# Altium footprint library SamacSys.PcbLib: 19 footprints (part 2 of 2)
Each footprint in its own frame and in the unit in brackets; x right, y up, seen from the top. Pads: shape width x height; smd on the part's side, far side on the other; paste and mask are expansions set on the pad; w line width, h text height; cw(c..) or ccw(c..) is an arc to the next point about the centre after c.
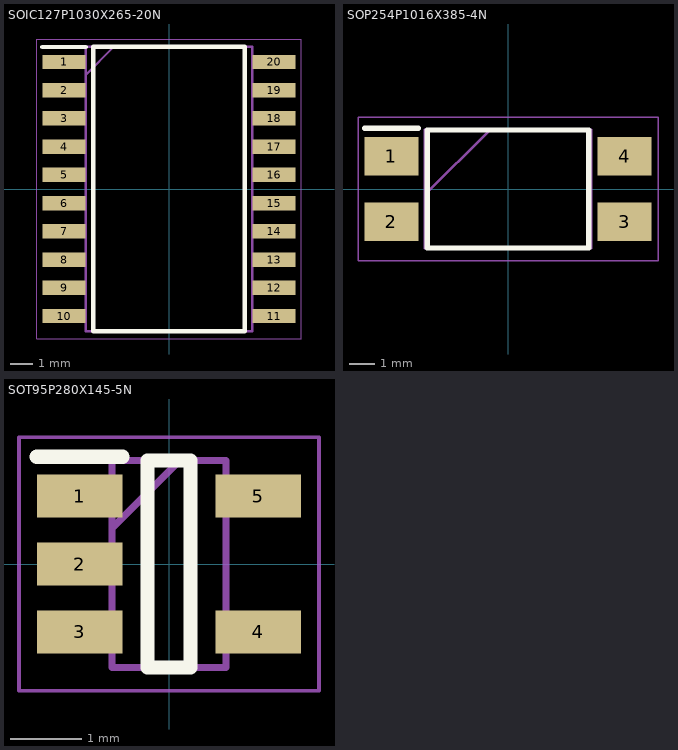
[diagram p1: the footprints below, top view; thin cyan lines are the x and y axes]

## SOIC127P1030X265-20N [mm]
pads (20):
  rect 1.95x0.65 smd: 1(-4.725,5.715) 2(-4.725,4.445) 3(-4.725,3.175) 4(-4.725,1.905) 5(-4.725,0.635) 6(-4.725,-0.635) 7(-4.725,-1.905) 8(-4.725,-3.175) 9(-4.725,-4.445) 10(-4.725,-5.715) 11(4.725,-5.715) 12(4.725,-4.445) 13(4.725,-3.175) 14(4.725,-1.905) 15(4.725,-0.635) 16(4.725,0.635) 17(4.725,1.905) 18(4.725,3.175) 19(4.725,4.445) 20(4.725,5.715)
Top Overlay:
  lines w0.2: -5.7,6.39 -3.75,6.39 ; -3.4,-6.4 -3.4,6.4 3.4,6.4 3.4,-6.4 -3.4,-6.4
Mechanical 13:
  lines w0.1: -3.75,5.13 -2.48,6.4 ; -3.75,-6.4 -3.75,6.4 3.75,6.4 3.75,-6.4 -3.75,-6.4
Mechanical 15:
  lines w0.05: -5.95,-6.75 -5.95,6.75 5.95,6.75 5.95,-6.75 -5.95,-6.75
3D body "SN74LS241DW.stp": height 2.65, standoff 0, extent -5.15,-6.4 5.15,6.4

## SOP254P1016X385-4N [mm]
pads (4):
  rect 2.1x1.5 smd: 1(-4.55,1.27) 2(-4.55,-1.27) 3(4.55,-1.27) 4(4.55,1.27)
Top Overlay:
  lines w0.2: -5.6,2.37 -3.5,2.37 ; -3.15,-2.3 -3.15,2.3 3.15,2.3 3.15,-2.3 -3.15,-2.3
Mechanical 13:
  lines w0.1: -3.25,-0.24 -0.71,2.3 ; -3.25,-2.3 -3.25,2.3 3.25,2.3 3.25,-2.3 -3.25,-2.3
Mechanical 15:
  lines w0.05: -5.85,-2.8 -5.85,2.8 5.85,2.8 5.85,-2.8 -5.85,-2.8
3D body "SO4.stp": height 2.21, standoff 0.01, extent -3.53,-1.397 3.479,1.443

## SOT95P280X145-5N [mm]
pads (5):
  rect 1.2x0.6 smd: 1(-1.25,0.95) 2(-1.25,0) 3(-1.25,-0.95) 4(1.25,-0.95) 5(1.25,0.95)
Top Overlay:
  lines w0.2: -1.85,1.5 -0.65,1.5 ; -0.3,-1.45 -0.3,1.45 0.3,1.45 0.3,-1.45 -0.3,-1.45
Mechanical 13:
  lines w0.1: -0.8,0.5 0.15,1.45 ; -0.8,-1.45 -0.8,1.45 0.8,1.45 0.8,-1.45 -0.8,-1.45
Mechanical 15:
  lines w0.05: -2.1,-1.775 -2.1,1.775 2.1,1.775 2.1,-1.775 -2.1,-1.775
3D body "SN74AHC1G08DBVR.stp": height 1.45, standoff 0, extent -1.4,-1.45 1.4,1.45